# Altium schematic symbol library Connectors.SchLib: 308 symbols (part 3 of 4)
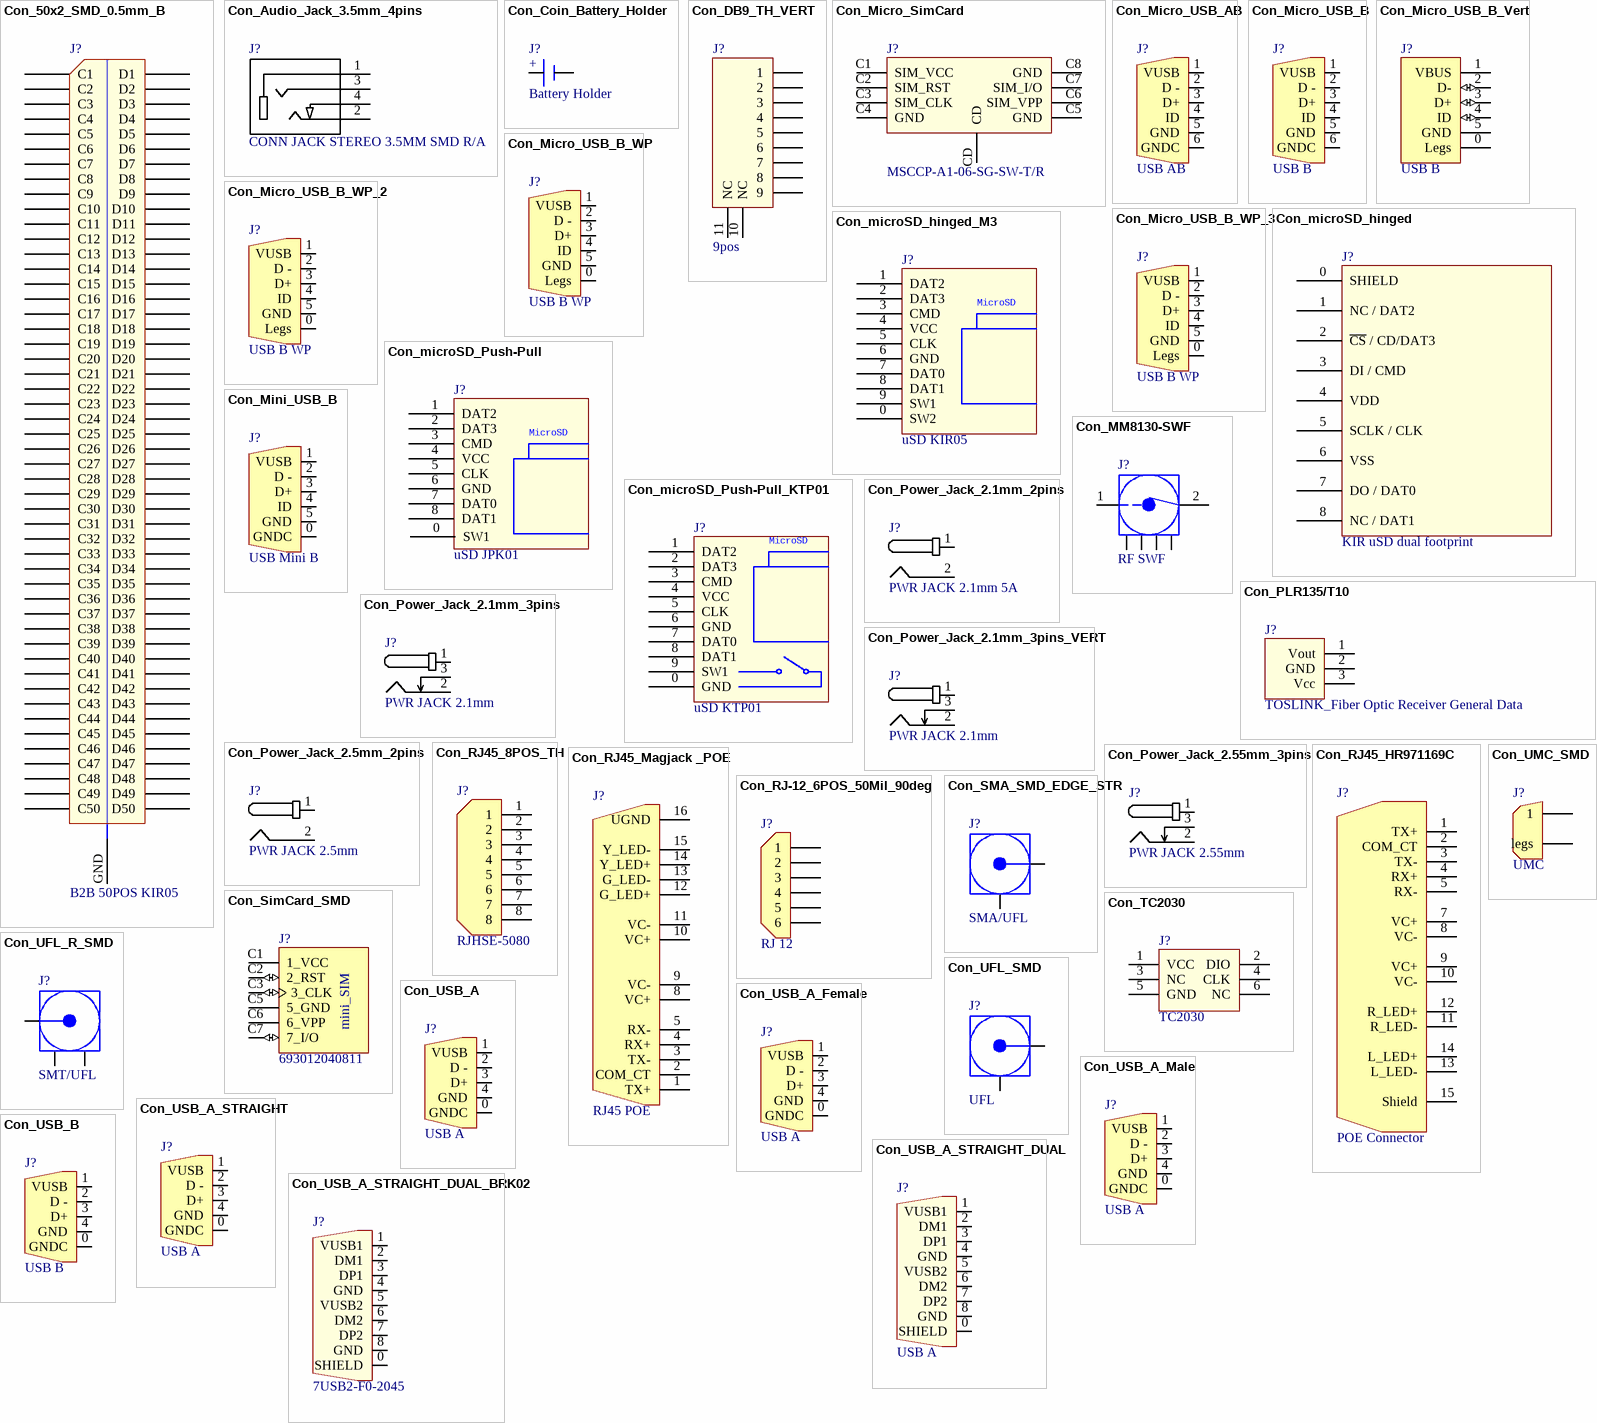
[diagram p11: symbols Con_50x2_SMD_0.5mm_B to Con_USB_B]

## Con_UFL_SMD
designator J?, comment UFL
CONN U.FL RCPT STR 50 OHM SMD; Manufacturer: Hirose Electric Co Ltd; Manufacturer Part Number: U.FL-R-SMT-1(40); Supplier 1: Digi-Key; Supplier Part Number 1: H125761CT-ND; Last modified by: J-E.Pachon; Last modified date: 20210722; ComponentLink1Description: Digi-Key; ComponentLink1URL: https://www.digikey.com/product-detail/en/hirose-electric-co-ltd/U.FL-R-SMT-1-40/H125761CT-ND/8594840
footprint CON_UFL_SMD (/ 20190503 / M-X.Arias)
pins: 0 GND (power), 1 Signal "Signal Pin"

## Con_UMC_SMD
designator J?, comment UMC
CONN UMC RCPT STR 50 OHM SMD; Manufacturer: Taoglas Limited; Manufacturer Part Number: RECE.20449.001E.01; Supplier 1: Digi-Key; Supplier Part Number 1: 931-1158-1-ND; Last modified by: E.Naranjo; Last modified date: 20211216; ComponentLink1Description: Digi-Key; ComponentLink1URL: https://www.digikey.com/en/products/detail/taoglas-limited/RECE-20449-001E-01/3083267?s=N4IgTCBcDaIEoFEDCCB0YAMAWLBOVGGAjGsSALoC%2BQA
footprint CON_UMC_SMD (20211216 / E.Naranjo)
pins: 0 legs, 1

## Con_USB_A
designator J?, comment USB A
CONN RCPT USB2.0 TYPEA 4P SMD RA; Manufacturer Part Number: 87583-3010RPALF; Manufacturer: Amphenol ICC (FCI); Last modified by: V-A.Patino; Last modified date: 20210722; ComponentLink1Description: Digi-Key; ComponentLink1URL: https://www.digikey.com/products/en/connectors-interconnects/usb-dvi-hdmi-connectors/312?k=87583-3010RPALF&k=&pkeyword=87583-3010RPALF&sv=0&pv7=2&sf=0&quantity=&ColumnSort=0&page=1&pageSize=25; Supplier 1: Digi-Key; Supplier Part Number 1: 609-4946-1-ND
footprint CON_4x1_SMD_USB_A (20190328 / V-A.Patino)
pins: 0 GNDC, 1 VUSB, 2 D -, 3 D+, 4 GND

## Con_USB_A_Female
designator J?, comment USB A
USB - Type A Female USB 2.0 4 Through Hole USB Connectors RoHS; Manufacturer Part Number: 903-131A1011D10100; Manufacturer: Jing Extension of the Electronic Co.; Last modified by: V-A.Patino; Last modified date: 20210722; ComponentLink1Description: LCSC; ComponentLink1URL: https://lcsc.com/product-detail/USB-Connectors_Jing-Extension-of-the-Electronic-Co-A-F90-White-plastic-Not-high-temperature_C46407.html; Supplier 1: LCSC; Supplier Part Number 1: C46407
footprint CON_USB_TYPE_A_FEMALE (/20210420/V-A.Patino)
pins: 0 GNDC, 1 VUSB, 2 D -, 3 D+, 4 GND

## Con_USB_A_Male
designator J?, comment USB A
USB - Type A Male USB 2.0 4 Through Hole USB Connectors RoHS; Manufacturer Part Number: 917-181A102ED60200; Manufacturer: Jing Extension of the Electronic Co.; Last modified by: V-A.Patino; Last modified date: 20210722; ComponentLink1Description: LCSC; ComponentLink1URL: https://lcsc.com/product-detail/USB-Connectors_Jing-Extension-of-the-Electronic-Co-A-M-90-VinylPBT-With-a-column-Not-high-temperature_C9739.html; Supplier 1: LCSC; Supplier Part Number 1: C9739
footprint CON_USB_TYPE_A_MALE (/20210420/V-A.Patino)
pins: 0 GNDC, 1 VUSB, 2 D -, 3 D+, 4 GND

## Con_USB_A_STRAIGHT
designator J?, comment USB A
USB TYPE-A SINGLE PORT STRAIGHT; Manufacturer: Cvilux USA; Manufacturer Part Number: CU01SAV1S00; Supplier 1: Digi-Key; Supplier Part Number 1: 2987-CU01SAV1S00-ND; Last modified by: M-C.Calderon; Last modified date: 20210722; ComponentLink1Description: Digi-Key; ComponentLink1URL: https://www.digikey.com/en/products/detail/cvilux-usa/CU01SAV1S00/13177553?s=N4IgTCBcDaIMIFUAMBGAygQQGrqUgBCALoC%2BQA
footprint CON_USB_A_4_VERTICAL (20210412/M-C.Calderon)
pins: 0 GNDC, 1 VUSB, 2 D -, 3 D+, 4 GND

## Con_USB_A_STRAIGHT_DUAL
designator J?, comment USB A
CONN RCPT USB2.0 TYPEA 4POS DUAL; Manufacturer: Shenzhen Kinghelm Elec; Manufacturer Part Number: KH-2AF180DIP-1715; Supplier 1: LCSC; Supplier Part Number 1: C2833361; Last modified by: N-A.Potosi; Last modified date: 20220621; ComponentLink1Description: LCSC; ComponentLink1URL: https://lcsc.com/product-detail/USB-Connectors_Shenzhen-Kinghelm-Elec-KH-2AF180DIP-1715_C2833361.html
footprint CON_USB_A_4_VERTICAL_DUAL (20220621/N-A.Potosi)
pins: 0 SHIELD, 1 VUSB1, 2 DM1, 3 DP1, 4 GND, 5 VUSB2, 6 DM2, 7 DP2, 8 GND

## Con_USB_A_STRAIGHT_DUAL_BRK02
designator J?, comment 7USB2-F0-2045
CONN RCPT USB2.0 TYPEA 4POS DUAL; Manufacturer: KINGCONN; Manufacturer Part Number: 7USB2-F0-2045; Supplier 1: PSI; Supplier Part Number 1: 7USB2-F0-2045; Last modified by: N-A.Potosi; Last modified date: 20221118
footprint CON_USB_A_4_VERTICAL_DUAL_BRK02 (20221118/N-A.Potosi)
pins: 0 SHIELD, 1 VUSB1, 2 DM1, 3 DP1, 4 GND, 5 VUSB2, 6 DM2, 7 DP2, 8 GND

## Con_USB_B
designator J?, comment USB B
USB - Type B Female USB 2.0 4 Through Hole USB Connectors RoHS; Manufacturer: Jing Extension of the Electronic Co.; Manufacturer Part Number: 921-111A1010Y10200; Supplier 1: LCSC; Supplier Part Number 1: C26234; Last modified by: N-A.Potosi; Last modified date: 20210722; ComponentLink1Description: LCSC; ComponentLink1URL: https://lcsc.com/product-detail/USB-Connectors_Jing-Extension-of-the-Electronic-Co-921-111A1010Y10200_C26234.html
footprint CON_USB_B_VERTICAL (/20230427/A-F. Romo)
pins: 0 GNDC, 1 VUSB, 2 D -, 3 D+, 4 GND

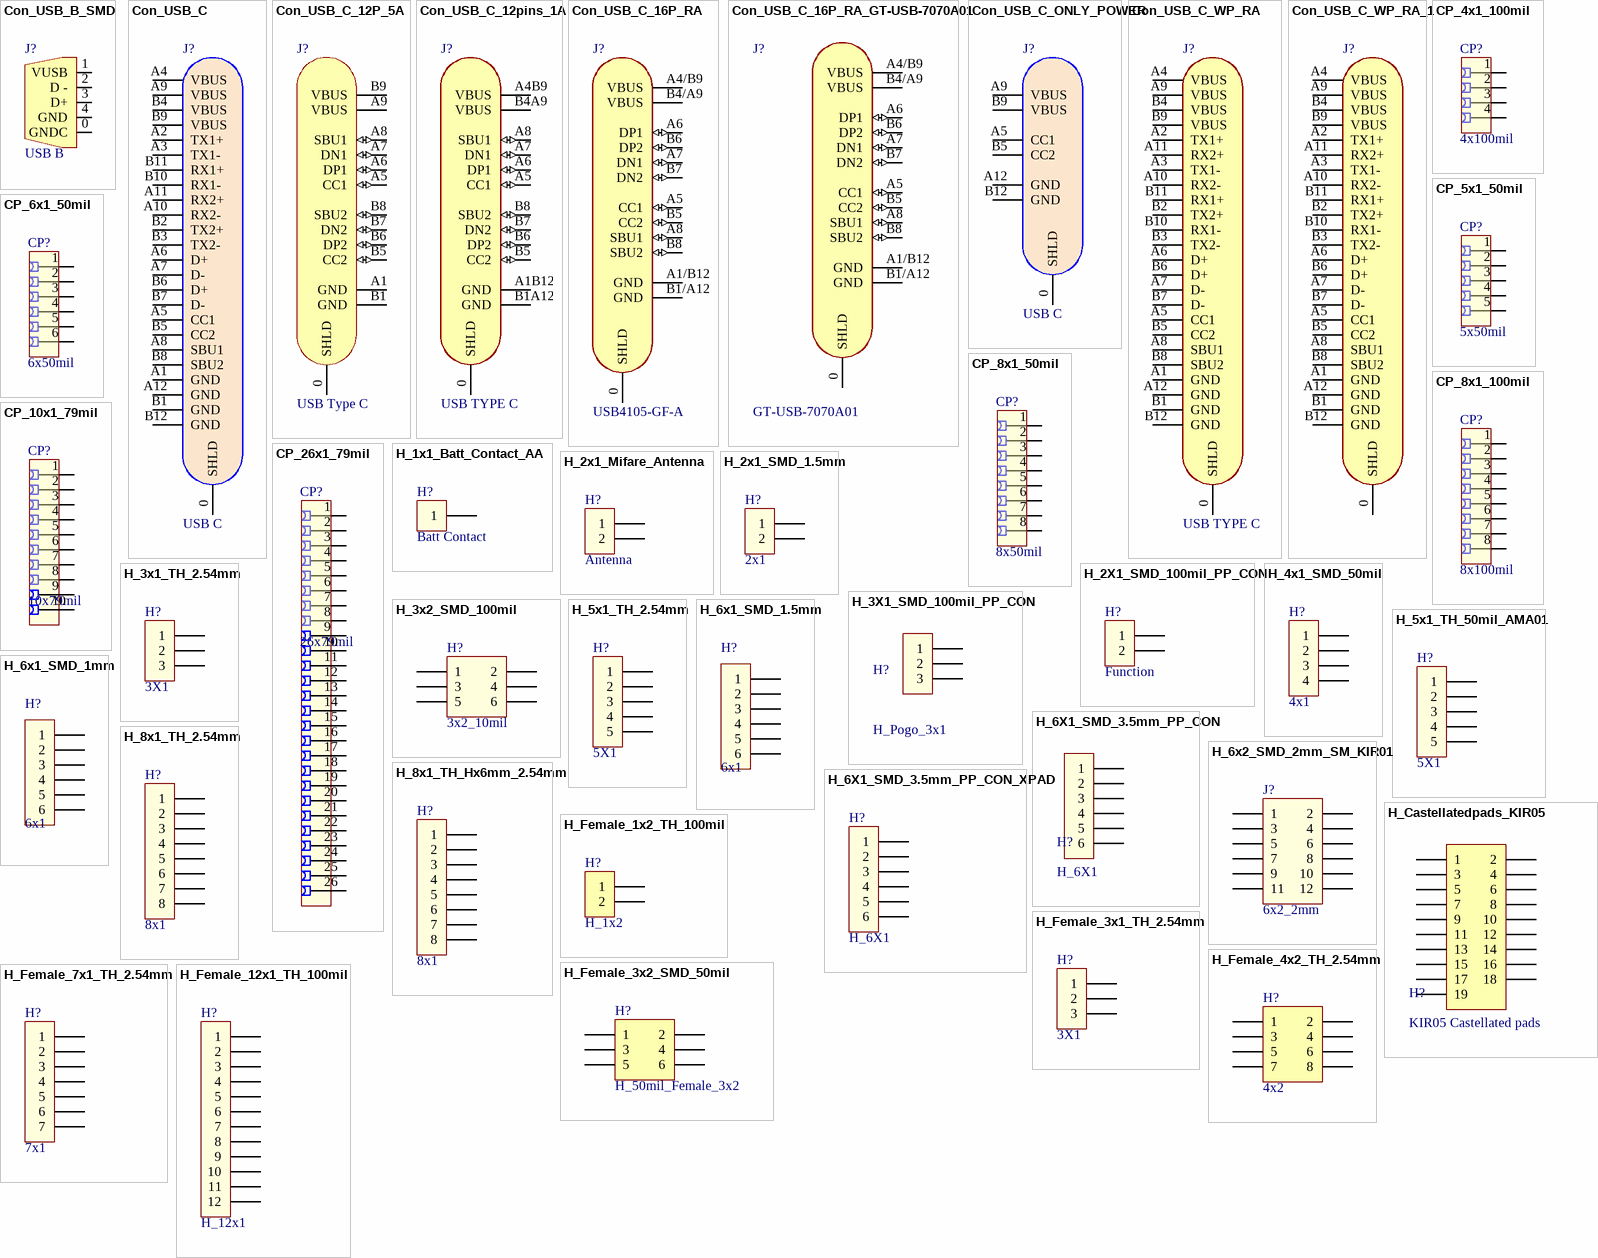
[diagram p6: symbols Con_USB_B_SMD to H_Female_12x1_TH_100mil]

## Con_USB_B_SMD
designator J?, comment USB B
Receptacle USB - Type B 4 USB 2.0 Through Hole USB Connectors ROHS; Manufacturer: Jing Extension of the Electronic  Co.; Manufacturer Part Number: 921-112A1010D10200; Supplier 1: LCSC; Supplier Part Number 1: C46393; Last modified by: N-A.Potosi; Last modified date: 20210831; ComponentLink1Description: LCSC; ComponentLink1URL: https://lcsc.com/product-detail/USB-Connectors_Jing-Extension-of-the-Electronic-Co-921-112A1010D10200_C46393.html
footprint CON_USB_B_SMD (/20210831/N-A.Potosi)
pins: 0 GNDC, 1 VUSB, 2 D -, 3 D+, 4 GND

## Con_USB_C
designator J?, comment USB C
USB TYPE C , RECEPTACLE, DIP, ED; Manufacturer: Adam Tech; Manufacturer Part Number: USB-C31-S-RA-EH2.0B-BK-T/R; Supplier 1: Digi-key; Supplier Part Number 1: 2057-USB-C31-S-RA-EH2.0B-BK-T/RCT-ND; Last modified by: V-A.Patino; Last modified date: 20210722; ComponentLink1Description: Digi-key; ComponentLink1URL: https://www.digikey.com/en/products/detail/adam-tech/USB-C31-S-RA-EH2-0B-BK-T-R/9832221
footprint CON_USB_C (/20210301/V-A.Patino)
pins: 0 SHLD, A1 GND, A2 TX1+, A3 TX1-, A4 VBUS, A5 CC1, A6 D+, A7 D-, A8 SBU1, A9 VBUS, A10 RX2-, A11 RX2+, A12 GND, B1 GND, B2 TX2+, B3 TX2-, B4 VBUS, B5 CC2, B6 D+, B7 D-, B8 SBU2, B9 VBUS, B10 RX1-, B11 RX1+, B12 GND

## Con_USB_C_12P_5A
designator J?, comment USB Type C
Manufacturer: Winpoint Electronic; Manufacturer Part Number: 3410-3CJRC9XKSX; Last modified by: E.Naranjo; Last modified date: 20220712
footprint CON_USB_C_12P_5A (20220712 / E.Naranjo)
pins: 0 SHLD, A1 GND (power), A5 CC1 (io), A6 DP1 (io), A7 DN1 (io), A8 SBU1 (io), A9 VBUS (power), B1 GND (power), B5 CC2 (io), B6 DP2 (io), B7 DN2 (io), B8 SBU2 (io), B9 VBUS (power)

## Con_USB_C_12pins_1A
designator J?, comment USB TYPE C
USB - Type C Female 12 Sink plate type USB Connectors RoHS; Manufacturer: Korean Hroparts Elec; Manufacturer Part Number: TYPE-C-31-M-14; Supplier 1: LCSC; Supplier Part Number 1: C223907; Last modified by: N-A.Potosi; Last modified date: 20210722; ComponentLink1Description: LCSC; ComponentLink1URL: https://lcsc.com/product-detail/USB-Type-C_Korean-Hroparts-Elec-TYPE-C-31-M-14_C223907.html
footprint CON_12X1_USB_TYPE_C_MIDMOUNTED (/20210706/N-A.Potosi)
pins: 0 SHLD, A1B12 GND (power), A4B9 VBUS (power), A5 CC1 (io), A6 DP1 (io), A7 DN1 (io), A8 SBU1 (io), B1A12 GND (power), B4A9 VBUS (power), B5 CC2 (io), B6 DP2 (io), B7 DN2 (io), B8 SBU2 (io)

## Con_USB_C_16P_RA
designator J?, comment USB4105-GF-A
USB Connectors USB Type C,2.0, Rec,SMT, 0.95mmTH Shell Stakes,G/F,RA,Top Mnt,T&R; Manufacturer: GCT; Manufacturer Part Number: USB4105-GF-A; Supplier 1: Mouser; Supplier Part Number 1: 640-USB4105-GF-A; Last modified by: E.Naranjo; Last modified date: 20220527; ComponentLink1Description: Mouser; ComponentLink1URL: https://co.mouser.com/ProductDetail/GCT/USB4105-GF-A?qs=KUoIvG%2F9IlY%2FMLlBMpStpA%3D%3D
footprint CON_USB_C_16P_RA (20220527 / E.Naranjo)
pins: 0 SHLD, A1/B12 GND (power), A4/B9 VBUS (power), A5 CC1 (io), A6 DP1 (io), A7 DN1 (io), A8 SBU1 (io), B1/A12 GND (power), B4/A9 VBUS (power), B5 CC2 (io), B6 DP2 (io), B7 DN2 (io), B8 SBU2 (io)

## Con_USB_C_16P_RA_GT-USB-7070A01
designator J?, comment GT-USB-7070A01
USB 2.0 5A 1 Surface Mount 16P Female -40℃~+85℃ Gold High Conductivity Copper Type-C SMD USB Connectors ROHS; Manufacturer: G-Switch; Manufacturer Part Number: GT-USB-7070A01; Supplier 1: LCSC; Supplier Part Number 1: C5446865; Last modified by: N-A.Potosi; Last modified date: 20230822; ComponentLink1Description: LCSC; ComponentLink1URL: https://www.lcsc.com/product-detail/USB-Connectors_G-Switch-GT-USB-7070A01_C5446865.html
footprint CON_USB_C_16P_RA - GT-USB-7070A01 (20230822 / N-A.Potosi)
pins: 0 SHLD, A1/B12 GND (power), A4/B9 VBUS (power), A5 CC1 (io), A6 DP1 (io), A7 DN1 (io), A8 SBU1 (io), B1/A12 GND (power), B4/A9 VBUS (power), B5 CC2 (io), B6 DP2 (io), B7 DN2 (io), B8 SBU2 (io)

## Con_USB_C_ONLY_POWER
designator J?, comment USB C
USB - Type C Female 6 USB Connectors RoHS; Manufacturer: Korean Hroparts Elec; Manufacturer Part Number: TYPE-C-31-M-17; Supplier 1: LCSC; Supplier Part Number 1: C283540; Last modified by: V-A.Patino; Last modified date: 20210722; ComponentLink1Description: LCSC; ComponentLink1URL: https://lcsc.com/product-detail/Others_Korean-Hroparts-Elec-TYPE-C-31-M-17_C283540.html
footprint CON_USB_C_POWER_ONLY (/20210318/V-A.Patino)
pins: 0 SHLD, A5 CC1, A9 VBUS, A12 GND, B5 CC2, B9 VBUS, B12 GND

## Con_USB_C_WP_RA
designator J?, comment USB TYPE C
USB TYPE C, RECEPTACLE, MIDDLE M; Manufacturer: Amphenol ICC (Commercial Products); Manufacturer Part Number: 124019032112A; Supplier 1: Digikey; Supplier Part Number 1: 124019032112ACT-ND; Last modified by: J-E.Pachon; Last modified date: 20210722; ComponentLink1Description: Digikey; ComponentLink1URL: https://www.digikey.com/en/products/detail/amphenol-icc-commercial-products/124019032112A/9825359?s=N4IgTCBcDaIIxgCwAY4E5kGYxwQQQGEAVAWgDkAREAXQF8g
footprint CON_12X2_USB_TYPE_C (/20210106/J-E.Pachon)
pins: 0 SHLD, A1 GND, A2 TX1+, A3 TX1-, A4 VBUS, A5 CC1, A6 D+, A7 D-, A8 SBU1, A9 VBUS, A10 RX2-, A11 RX2+, A12 GND, B1 GND, B2 TX2+, B3 TX2-, B4 VBUS, B5 CC2, B6 D+, B7 D-, B8 SBU2, B9 VBUS, B10 RX1-, B11 RX1+, B12 GND

## Con_USB_C_WP_RA_1
designator J?
SMD USB Connectors ROHS; Manufacturer: Korean Hroparts Elec; Manufacturer Part Number: TYPE_C_31_E_12; Supplier 1: LCSC; Supplier Part Number 1: C2837227; Last modified by: J-E.Pachon; Last modified date: 20210826; ComponentLink1Description: LCSC; ComponentLink1URL: https://lcsc.com/product-detail/USB-Connectors_Korean-Hroparts-Elec-TYPE-C-31-E-12_C2837227.html
footprint CON_USB_C_WP_RA (/20210826/J-E.Pachon)
pins: 0 SHLD, A1 GND, A2 TX1+, A3 TX1-, A4 VBUS, A5 CC1, A6 D+, A7 D-, A8 SBU1, A9 VBUS, A10 RX2-, A11 RX2+, A12 GND, B1 GND, B2 TX2+, B3 TX2-, B4 VBUS, B5 CC2, B6 D+, B7 D-, B8 SBU2, B9 VBUS, B10 RX1-, B11 RX1+, B12 GND

## CP_4x1_100mil
designator CP?, comment 4x100mil  (no BOM)
CONN CASTELLATED PADS 4x1 100mils; Manufacturer: NA; Manufacturer Part Number: NA; Supplier 1: NA; Supplier Part Number 1: NA; Titoma stock: NA; Last modified by: C-A.Serna.A; Last modified date: 20191126
footprint CP_4x1_100mil_TP (/ 20191126/ C-A.Serna.A)
pins: 1, 2, 3, 4

## CP_5x1_50mil
designator CP?, comment 5x50mil  (no BOM)
CONN CASTELLATED PADS 5x1 50mils; Manufacturer: NA; Manufacturer Part Number: NA; Supplier 1: NA; Supplier Part Number 1: NA; Titoma stock: NA; Last modified by: N-A.Potosi; Last modified date: 20220331
footprint CP_5x1_50mil (/ 20220331 N-A.Potosi)
pins: 1, 2, 3, 4, 5

## CP_6x1_50mil
designator CP?, comment 6x50mil  (no BOM)
CONN CASTELLATED PADS 6x1 50mils; Manufacturer: NA; Manufacturer Part Number: NA; Supplier 1: NA; Supplier Part Number 1: NA; Titoma stock: NA; Last modified by: N-A.Potosi; Last modified date: 20220331
footprint CP_6x1_50mil (/ 20220331 N-A.Potosi)
pins: 1, 2, 3, 4, 5, 6

## CP_8x1_50mil
designator CP?, comment 8x50mil  (no BOM)
CONN CASTELLATED PADS 8x1 50mils; Last modified by: C-A.Serna.A; Last modified date: 20191126
footprint CP_8x1_50mil (/ 20200103 C-A.Serna.A)
pins: 1, 2, 3, 4, 5, 6, 7, 8

## CP_8x1_100mil
designator CP?, comment 8x100mil  (no BOM)
CONN CASTELLATED PADS 8x1 100mils; Last modified by: C-A.Serna.A; Last modified date: 20191126
footprint CP_8x1_100mil_TP (/ 20191126/ C-A.Serna.A)
pins: 1, 2, 3, 4, 5, 6, 7, 8

## CP_10x1_79mil
designator CP?, comment 10x79mil  (no BOM)
CONN CASTELLATED PADS 10x1 79mils; Last modified by: J-A.Sepulveda; Last modified date: 20230808
footprint CP_10x1_79mil (/20230808/J-A.Sepulveda)
pins: 1, 2, 3, 4, 5, 6, 7, 8, 9, 10

## CP_26x1_79mil
designator CP?, comment 26x79mil  (no BOM)
CONN CASTELLATED PADS 26x1 79mils; Last modified by: J-A.Sepulveda; Last modified date: 20230808
footprint CP_26x1_79mil (/20230808/J-A.Sepulveda)
pins: 1, 2, 3, 4, 5, 6, 7, 8, 9, 10, 11, 12, 13, 14, 15, 16, 17, 18, 19, 20, 21, 22, 23, 24, 25, 26

## H_1x1_Batt_Contact_AA
designator H?, comment Batt Contact  (no BOM)
BATT CONTACT SPRING MULTI PC PIN; Manufacturer: Keystone Electronics; Manufacturer Part Number: 1021-1; Supplier 1: Digi-Key; Supplier Part Number 1: 36-1021-1-ND; Last modified by: N-A.Potosi; Last modified date: 20210722; ComponentLink1Description: Digi-Key; ComponentLink1URL: https://www.digikey.com/en/products/detail/keystone-electronics/1021-1/4499387?s=N4IgTCBcDaIMwDYC0BGADGFqkDkAiIAugL5A
footprint H_1x1_TH_1.1mm (/ 20210323/ N-A.Potosi)
pins: 1

## H_2x1_Mifare_Antenna
designator H?, comment Antenna  (no BOM)
Mifare Antenna Connector; Last modified by: C-A.Serna.A; Last modified date: 20190225
footprint H_2x1_Mifare_Antenna (/ 20190920 / M-X.Arias)
pins: 1, 2

## H_2x1_SMD_1.5mm
designator H?, comment 2x1  (no BOM)
Header 2 POS 1.5MM; Last modified by: J-E.Pachon; Last modified date: 20210114
footprint H_2X1_SMD_1.5MM (/20210114/J-E.Pachon)
pins: 1, 2

## H_2X1_SMD_100mil_PP_CON
designator H?, comment Function  (no BOM)
POGO PIN HEADER 2P 100MIL PITCH; Manufacturer: Mill-Max Manufacturing Corp.; Manufacturer Part Number: 811-22-002-30-000101; Last modified by: C-A.Serna.A; Last modified date: 20190225; Supplier 1: Digi-key; Supplier Part Number 1: ED8110-02-ND; ComponentLink1Description: Digi-Key; ComponentLink1URL: https://www.digikey.com/en/products/detail/mill-max-manufacturing-corp/811-22-002-30-000101/682270?s=N4IgTCBcDaIKIBEAcBGFAGAtOsmByCIAugL5A
footprint H_2X1_SMD_100mil_PP_CON (/ 20190222 / C-A.Serna.A)
pins: 1, 2

## H_3X1_SMD_100mil_PP_CON
designator H?, comment H_Pogo_3x1  (no BOM)
POGO PIN HEADER 3P 100MIL PITCH; Last modified by: C-A.Serna.A; Last modified date: 20190225
footprint H_3X1_SMD_100mil_PP_CON (/ 20190222 / C-A.Serna.A)
pins: 1, 2, 3

## H_3x1_TH_2.54mm
designator H?, comment 3X1
CONN HEADER R/A 3POS 2.54MM; Manufacturer: Molex; Manufacturer Part Number: 0022289033; Supplier 1: Digikey; Supplier Part Number 1: WM22775-ND; Last modified by: J-E.Pachon; Last modified date: 20210722; ComponentLink1Description: Digikey; ComponentLink1URL: https://www.digikey.com/en/products/detail/molex/0022289033/3158811
footprint H_3X1_TH_2.54MM (/20210218/J-E.Pachon)
pins: 1, 2, 3

## H_3x2_SMD_100mil
designator H?, comment 3x2_10mil
CONN HEADER SMD 6POS 2.54MM; Manufacturer Part Number: 0015910060; Manufacturer: Molex; ComponentLink1URL: https://www.digikey.com/product-detail/en/molex/0015910060/WM17457-ND/614773; Last modified date: 20210722; Last modified by: C-D Viveros; Supplier 1: Digi-key; Supplier Part Number 1: WM17457-ND; ComponentLink1Description: Digi-key; ComponentLink1URL: https://www.digikey.tw/products/en?keywords=3M6475-ND
footprint H_3x2_SMD_100MIL (/ 20191030 / C-D.Viveros)
pins: 1, 2, 3, 4, 5, 6

## H_4x1_SMD_50mil
designator H?, comment 4x1  (no BOM)
HEADER 4 POS 50MIL; Last modified by: J-E.Pachon; Last modified date: 20210722
footprint H_4X1_SMD_50MIL (/20210701/J-E.Pachon)
pins: 1, 2, 3, 4

## H_5x1_TH_2.54mm
designator H?, comment 5X1
CONN HEADER R/A 5POS 2.54MM; Manufacturer: Molex; Manufacturer Part Number: 0022288053; Supplier 1: Digikey; Supplier Part Number 1: WM50026-05-ND; Last modified by: J-E.Pachon; Last modified date: 20210722; ComponentLink1Description: Digikey; ComponentLink1URL: https://www.digikey.com/en/products/detail/molex/0022288053/314210
footprint H_5X1_TH_2.54MM (/20210218/J-E.Pachon)
pins: 1, 2, 3, 4, 5

## H_5x1_TH_50mil_AMA01
designator H?, comment 5X1  (no BOM)
Header 5x1 1.27mm; Last modified by: E.Naranjo; Last modified date: 20220518
footprint H_5X1_TH_50MIL_AMA01 (20220517 / E.Naranjo)
pins: 1, 2, 3, 4, 5

## H_6x1_SMD_1.5mm
designator H?, comment 6x1  (no BOM)
Header 6 POS 1.5MM; Last modified by: J-E.Pachon; Last modified date: 20210113
footprint H_6x1_SMD_1.5MM (/20210113/J-E.Pachon)
pins: 1, 2, 3, 4, 5, 6

## H_6x1_SMD_1mm
designator H?, comment 6x1  (no BOM)
Header 6 POS 1MM; Last modified by: J-E.Pachon; Last modified date: 20210809
footprint H_6x1_SMD_1.0MM (/20210810/J-E.Pachon)
pins: 1, 2, 3, 4, 5, 6

## H_6X1_SMD_3.5mm_PP_CON
designator H?, comment H_6X1  (no BOM)
POGO PIN HEADER 6P 3.5MM PITCH; Last modified by: N-A.Potosi; Last modified date: 20210202
footprint H_6X1_SMD_3.5mm_PP_CON (/ 20190222 / C-A.Serna.A)
pins: 1, 2, 3, 4, 5, 6

## H_6X1_SMD_3.5mm_PP_CON_XPAD
designator H?, comment H_6X1
POGO PIN HEADER 6P 3.5MM PITCH; Manufacturer Part Number: PG2.0-8.0-6P-3.5PH-2.0H; Manufacturer: Dongguan Precision Metal Co., Ltd; Last modified by: N-A Potosi; Last modified date: 20211027; Supplier 1: Poshton; Supplier Part Number 1: PG2.0-8.0-6P-3.5PH-2.0H
footprint H_6X1_SMD_3.5mm_PP_CON_XPAD (/ 20190923/ N-A. Potosi)
pins: 1, 2, 3, 4, 5, 6

## H_6x2_SMD_2mm_SM_KIR01
designator J?, comment 6x2_2mm
2.00mm Pitch Milli-Grid Straddle Mount Header; Manufacturer Part Number: PH2.00*1.5-6P-4; Manufacturer: Realrun; Last modified date: 20210722; Last modified by: J-E.Pachon; Supplier 1: Poshton; Supplier Part Number 1: PH2.00*1.5-6P-4; ComponentLink1URL: https://www.digikey.tw/products/en?keywords=3M6475-ND
footprint H_6X2_SMD_100MIL_SM_KIR01 (/ C-A.Serna.A / 20190710)
pins: 1, 2, 3, 4, 5, 6, 7, 8, 9, 10, 11, 12

## H_8x1_TH_2.54mm
designator H?, comment 8x1
CONN HEADER R/A 8POS 2.54MM; Manufacturer: Molex; Manufacturer Part Number: 0022288083; Supplier 1: Digikey; Supplier Part Number 1: WM50026-08-ND; Last modified by: J-E.Pachon; Last modified date: 20221011; ComponentLink1Description: Digikey; ComponentLink1URL: https://www.digikey.com/en/products/detail/molex/0022288083/314213?s=N4IgjCBcoKxaBjKAzAhgGwM4FMA0IB7KAbXBAF18AHAFyhAGUaAnASwDsBzEAX3wCYAHPBBJIaLHkIkQAZhjz%2BsitTqRGLDtz4gAbMuiiUGHPiKRSESiFr0mbLr3y7dIsRNPSLZa7fX2tJz0ATjdjSTMZABYwMGD%2BK1U7TUcdQWFDdxMpc1IhMBiABhUbNQ0HbXxgiEzwz1y5BN0wYV8ygNSBGH4w8WzI70TS5IqgqMK4Wr6Ir1JZMAB2QsKetpHAnRgwHqmPHJlZBbB5ZTX-FMqQLYzEOv3vWWDC4KOSv3KN-BhdKN69gbm2wWUTgZw%2BnSuglCu36sxA4xgy1WSXOox0uhef1hDSG7w6lyeBlu03q0UWun4Cze7QuQTAhUEvxhMxx1PWEO2%2BixLJkuJpaPwYAxRKMJPugOC8VCYPxdIWT25pO8L34rhltJ0i2qivFckR8rVKPBly1O2J-zhL0EwLZqM%2B4Hlk3N2LJ-CUVPVAodwVczKVpF0CyOpyNss1wShOoBIGK5B0-EKsSjcPGLhctuNQQT22TOIm8ozYYEiZuootDWCUQThY1xYSubJC0EMGlodrIATbobgxrXs7IqyPIe6XkHrbfZWTOdQ8svftnadZZdgyekrnEIAtDVp-6O6cdBup0uZ3qMRQD4vB7v9-gN1S-brji2wDBcEpzzweEA
footprint H_8X1_TH_2.54MM (/20221011/J-E.Pachon)
pins: 1, 2, 3, 4, 5, 6, 7, 8

## H_8x1_TH_Hx6mm_2.54mm
designator H?, comment 8x1
3A Shrouded Square Pins 2.54mm 6mm 1 8 2.54mm 1x8P Push-Pull,P=2.54mm Pin Headers; Manufacturer: DEALON; Manufacturer Part Number: DZ254W-11-08-65; Supplier 1: LCSC; Supplier Part Number 1: C2935933; Last modified by: J-A.Sepulveda; Last modified date: 20221128; ComponentLink1Description: LCSC; ComponentLink1URL: https://www.lcsc.com/product-detail/Pin-Headers_DEALON-DZ254W-11-08-65_C2935933.html
footprint H_8x1_TH_Hx6mm_2.54mm (/20221128/J-A.Sepulveda)
pins: 1, 2, 3, 4, 5, 6, 7, 8

## H_Castellatedpads_KIR05
designator H?, comment KIR05 Castellated pads  (no BOM)
19 Pins KIR05 Wifi connector; Last modified by: M-C.Calderon; ComponentLink1Description: New link; ComponentLink1URL: *; Last modified date: 20200825
footprint H_19_Castellatedpads_KIR05 (/20200825/M-C.Calderon)
pins: 1, 2, 3, 4, 5, 6, 7, 8, 9, 10, 11, 12, 13, 14, 15, 16, 17, 18, 19

## H_Female_1x2_TH_100mil
designator H?, comment H_1x2  (no BOM)
CONN HDR 2POS 0.1 TIN PCB; Manufacturer: Sullins Connector Solutions; Manufacturer Part Number: PPTC021LFBN-RC; Supplier 1: Digi-Key; Supplier Part Number 1: S7000-ND; Last modified by: F-A.Ospina; Last modified date: 20220725; ComponentLink1Description: Digi-Key; ComponentLink1URL: https://www.digikey.com/en/products/detail/sullins-connector-solutions/PPTC021LFBN-RC/810142
footprint H_1x2_TH_100mil (/ 20220725/ F-A.Ospina)
pins: 1, 2

## H_Female_3x1_TH_2.54mm
designator H?, comment 3X1
CONN HDR 3POS 0.1 GOLD PCB; Manufacturer: Sullins Connector Solutions; Manufacturer Part Number: PPPC031LFBN-RC; Supplier 1: Digikey; Supplier Part Number 1: S7036-ND; Last modified by: N-A.Potosi; Last modified date: 20210831; ComponentLink1Description: Digikey; ComponentLink1URL: https://www.digikey.com/en/products/detail/sullins-connector-solutions/PPPC031LFBN-RC/810175?s=N4IgTCBcDaIMoHYAMBmAbAWgHIBEQF0BfIA
footprint H_Female_3X1_TH_2.54MM (/20210831/N-A.Potosi)
pins: 1, 2, 3

## H_Female_3x2_SMD_50mil
designator H?, comment H_50mil_Female_3x2
CONN RCPT 6POS 0.05 GOLD SMD; Manufacturer Part Number: CLP-103-02-F-D; Manufacturer: Samtec Inc.; Supplier 1: Digi-Key; Supplier Part Number 1: SAM1153-03-ND; ComponentLink1URL: https://www.digikey.com/en/products/detail/samtec-inc/CLP-103-02-F-D/1109832; Last modified date: 20210722; Last modified by: C-D Viveros; ComponentLink1Description: Digi-key; ComponentLink1URL: *
footprint H_3x2_SMD_50mil_Female (/ 20201015 / C-D Viveros)
pins: 1, 2, 3, 4, 5, 6

## H_Female_4x2_TH_2.54mm
designator H?, comment 4x2
CONN HDR 8POS 0.1 TIN PCB; Manufacturer: Sullins Connector Solutions; Manufacturer Part Number: PPTC042LFBN-RC; Supplier 1: Digikey; Supplier Part Number 1: S7072-ND; Last modified by: N-A.Potosi; Last modified date: 20230117; ComponentLink1Description: Digikey; ComponentLink1URL: https://www.digikey.com/en/products/detail/sullins-connector-solutions/PPTC042LFBN-RC/810211?s=N4IgTCBcDaIApwCoGEAMAWMAZAYgIQDkBaAJWRAF0BfIA
footprint H_Female_4X2_TH_2.54MM (/20210831/N-A.Potosi)
pins: 1, 2, 3, 4, 5, 6, 7, 8

## H_Female_7x1_TH_2.54mm
designator H?, comment 7x1
CONN HDR 7POS 0.1 TIN PCB; Manufacturer: Sullins Connector Solutions; Manufacturer Part Number: PPTC071LFBN-RC; Supplier 1: Digikey; Supplier Part Number 1: S7005-ND; Last modified by: J-E.Pachon; Last modified date: 20210722; ComponentLink1Description: Digikey; ComponentLink1URL: https://www.digikey.com/en/products/detail/sullins-connector-solutions/PPTC071LFBN-RC/810146
footprint H_7x1_TH_100mil (/ 20190829 / M-X.Arias)
pins: 1, 2, 3, 4, 5, 6, 7

## H_Female_12x1_TH_100mil
designator H?, comment H_12x1
CONN HDR 12POS 0.1 TIN PCB; Manufacturer: Sullins Connector Solutions; Manufacturer Part Number: PPTC121LFBN-RC; Supplier 1: Digi-Key; Supplier Part Number 1: S6100-ND; Last modified by: V-A.Patino; Last modified date: 20210906; ComponentLink1Description: Digi-Key; ComponentLink1URL: https://www.digikey.com/en/products/detail/sullins-connector-solutions/PPTC121LFBN-RC/807231
footprint H_12x1_TH_100mil_Female (/ 20210906/ V-A.Patino)
pins: 1, 2, 3, 4, 5, 6, 7, 8, 9, 10, 11, 12

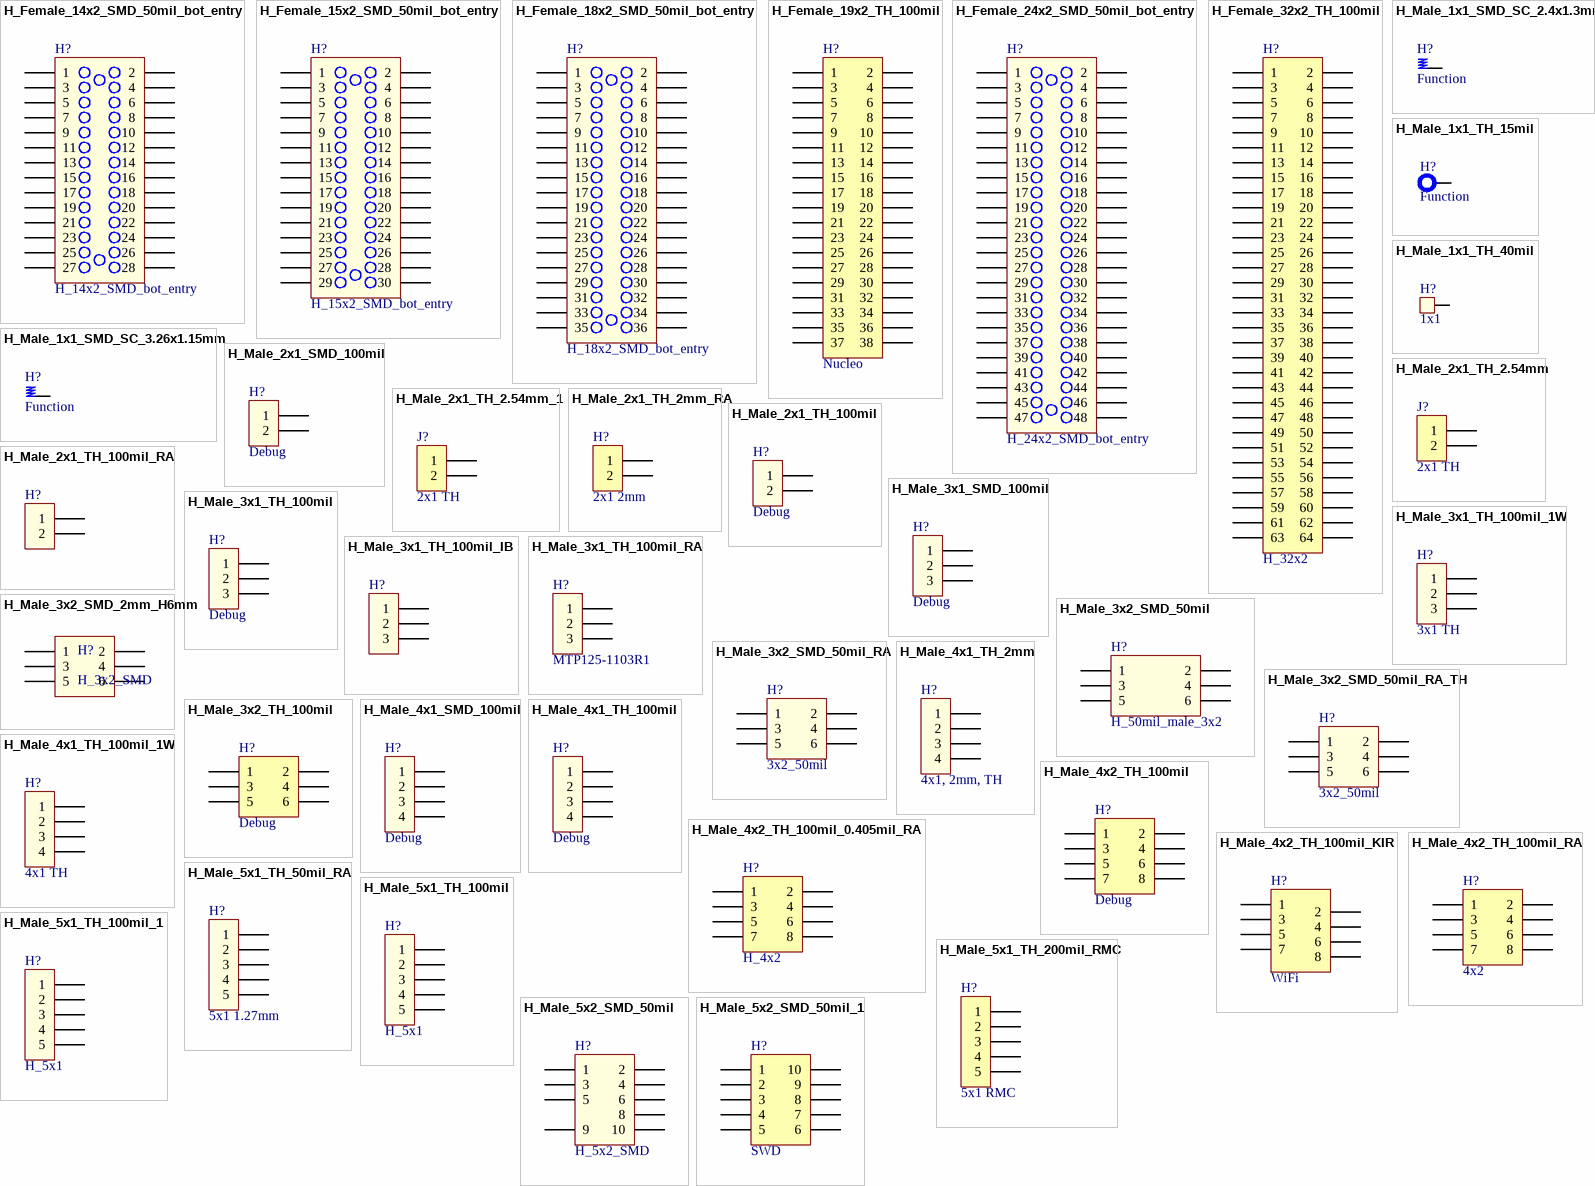
[diagram p7: symbols H_Female_14x2_SMD_50mil_bot_entry to H_Male_5x2_SMD_50mil_1]

## H_Female_14x2_SMD_50mil_bot_entry
designator H?, comment H_14x2_SMD_bot_entry
14x2 bottom entry; Manufacturer: REALRUN; Manufacturer Part Number: FH1.27×2.15-3.4-2x14T; Last modified by: N-A.Potosi; Last modified date: 20220120; Supplier 1: Poshton; Supplier Part Number 1: FH1.27×2.15-3.4-2x14T
footprint H_female_14x2_SMD_50mil_bottom_entry (/ 20220120/ N-A.potosi)
pins: 1, 2, 3, 4, 5, 6, 7, 8, 9, 10, 11, 12, 13, 14, 15, 16, 17, 18, 19, 20, 21, 22, 23, 24, 25, 26, 27, 28

## H_Female_15x2_SMD_50mil_bot_entry
designator H?, comment H_15x2_SMD_bot_entry
15x2 bottom entry; Manufacturer: REALRUN; Manufacturer Part Number: FH1.27×2.15-3.4-2x15T; Last modified by: N-A.Potosi; Last modified date: 20220909; Supplier 1: Poshton; Supplier Part Number 1: FH1.27×2.15-3.4-2x15T
footprint H_female_15x2_SMD_50mil_bottom_entry (/ 20220909/ N-A.potosi)
pins: 1, 2, 3, 4, 5, 6, 7, 8, 9, 10, 11, 12, 13, 14, 15, 16, 17, 18, 19, 20, 21, 22, 23, 24, 25, 26, 27, 28, 29, 30

## H_Female_18x2_SMD_50mil_bot_entry
designator H?, comment H_18x2_SMD_bot_entry
18x2 bottom entry; Manufacturer: REALRUN; Manufacturer Part Number: FH1.27×2.15-3.4-2x18T; Last modified by: N-A.Potosi; Last modified date: 20220121; Supplier 1: Poshton; Supplier Part Number 1: FH1.27×2.15-3.4-2x18T
footprint H_female_18x2_SMD_50mil_bottom_entry (/ 20220121/ N-A.potosi)
pins: 1, 2, 3, 4, 5, 6, 7, 8, 9, 10, 11, 12, 13, 14, 15, 16, 17, 18, 19, 20, 21, 22, 23, 24, 25, 26, 27, 28, 29, 30, 31, 32, 33, 34, 35, 36

## H_Female_19x2_TH_100mil
designator H?, comment Nucleo
CONN HDR 38POS 0.1 GOLD PCB; Manufacturer: Sullins Connector Solutions; Manufacturer Part Number: PPPC192LFBN-RC; Supplier 1: Digi-Key; Supplier Part Number 1: S7122-ND; Last modified by: J-E.Pachon; Last modified date: 20210722; ComponentLink1Description: Digi-Key; ComponentLink1URL: https://www.digikey.com/en/products/detail/sullins-connector-solutions/PPPC192LFBN-RC/810258?s=N4IgTCBcDaIMoHYCMYwFoByAREBdAvkA
footprint H_19x2_TH_100MIL (/ 20190401 / L-A Boulanger)
pins: 1, 2, 3, 4, 5, 6, 7, 8, 9, 10, 11, 12, 13, 14, 15, 16, 17, 18, 19, 20, 21, 22, 23, 24, 25, 26, 27, 28, 29, 30, 31, 32, 33, 34, 35, 36, 37, 38

## H_Female_24x2_SMD_50mil_bot_entry
designator H?, comment H_24x2_SMD_bot_entry
24x2 bottom entry; Manufacturer: REALRUN; Manufacturer Part Number: FH1.27×2.15-3.4-2x24T; Last modified by: N-A.Potosi; Last modified date: 20220121; Supplier 1: Poshton; Supplier Part Number 1: FH1.27×2.15-3.4-2x24T
footprint H_female_24x2_SMD_50mil_bottom_entry (/ 20220121/ N-A.potosi)
pins: 1, 2, 3, 4, 5, 6, 7, 8, 9, 10, 11, 12, 13, 14, 15, 16, 17, 18, 19, 20, 21, 22, 23, 24, 25, 26, 27, 28, 29, 30, 31, 32, 33, 34, 35, 36, 37, 38, 39, 40, 41, 42, 43, 44, 45, 46, 47, 48

## H_Female_32x2_TH_100mil
designator H?, comment H_32x2  (no BOM)
CONN HDR 64POS 0.1 TIN PCB; Manufacturer: Sullins Connector Solutions; Manufacturer Part Number: PPTC322LFBN-RC; Supplier 1: Digi-Key; Supplier Part Number 1: S7100-ND; Last modified by: J-P.Vargas.A; Last modified date: 20210722; ComponentLink1Description: Digi-Key; ComponentLink1URL: https://www.digikey.com/product-detail/en/sullins-connector-solutions/PPTC322LFBN-RC/S7100-ND/810237
footprint H_32x2_TH_100mil (/ 20200525/ J-P.Vargas.A)
pins: 1, 2, 3, 4, 5, 6, 7, 8, 9, 10, 11, 12, 13, 14, 15, 16, 17, 18, 19, 20, 21, 22, 23, 24, 25, 26, 27, 28, 29, 30, 31, 32, 33, 34, 35, 36, 37, 38, 39, 40, 41, 42, 43, 44, 45, 46, 47, 48, 49, 50, 51, 52, 53, 54, 55, 56, 57, 58, 59, 60, 61, 62, 63, 64

## H_Male_1x1_SMD_SC_2.4x1.3mm
designator H?, comment Function
CLIP SPRING ASSY 2.20MM; Manufacturer: Molex; Manufacturer Part Number: 1054390005; Supplier 1: Digi-Key; Supplier Part Number 1: WM12438CT-ND; Last modified by: J-E.Pachon; Last modified date: 20210722; ComponentLink1Description: Digi-Key; ComponentLink1URL: https://www.digikey.com/product-detail/en/molex/1054390005/WM12438TR-ND/5804337
footprint H_1x1_SMD_SC_2.4x1.32mm (/ 20190522 / H-D.Garcia)
pins: 1

## H_Male_1x1_SMD_SC_3.26x1.15mm
designator H?, comment Function
SHIELD FINGER, LOOSE PIECE; Manufacturer: TE Connectivity AMP Connectors; Manufacturer Part Number: 1551576-5; Supplier 1: Digi-Key; Supplier Part Number 1: A117267CT-ND; Last modified by: N-A.Potosi; Last modified date: 20211111; ComponentLink1Description: Digi-Key; ComponentLink1URL: https://www.digikey.tw/en/products/detail/te-connectivity-amp-connectors/1551576-5/5800491?s=N4IgTCBcDaIIIEYEHYwDZkGEAqBaAcgCIgC6AvkA
footprint H_1x1_SMD_SC_3.26x1.15mm (/ 20211111/ N-A.Potosi)
pins: 1

## H_Male_1x1_TH_15mil
designator H?, comment Function  (no BOM)
Debugging male pin; Last modified by: C-A.Serna.A; Last modified date: 20190225
footprint H_1x1_TH_15mil (/ 20190222 / C-A.Serna.A)
pins: 1

## H_Male_1x1_TH_40mil
designator H?, comment 1x1
CONN HEADER VERT 1POS; Manufacturer: Sullins Connector Solutions; Manufacturer Part Number: PREC001SAAN-RC; Supplier 1: Digi-Key; Supplier Part Number 1: S1012EC-01-ND; Last modified by: E.Naranjo; Last modified date: 20221108; ComponentLink1Description: Digi-Key; ComponentLink1URL: https://www.digikey.com/en/products/detail/sullins-connector-solutions/PREC001SAAN-RC/2774853
footprint H_MALE_1X1_TH_40MIL (20221108 / E.Naranjo)
pins: 1

## H_Male_2x1_SMD_100mil
designator H?, comment Debug  (no BOM)
Debugging male pin SMT; Manufacturer: Molex; Manufacturer Part Number: 0878980204; Supplier 1: Digi-Key; Supplier Part Number 1: WM9852-ND; Last modified by: J-A.Sepulveda; Last modified date: 20221215; ComponentLink1Description: Digi-Key; ComponentLink1URL: https://www.digikey.com/en/products/detail/molex/0878980204/3303535
footprint H_2X1_SMD_100mil (/ 20221215 / J-A.Sepulveda)
pins: 1, 2

## H_Male_2x1_TH_2.54mm
designator J?, comment 2x1 TH
CONN HEADER VERT 2POS 2.54MM; Manufacturer: Molex; Manufacturer Part Number: 0022232021; Supplier 1: Digi-Key; Supplier Part Number 1: 900-0022232021-ND; Last modified by: M-C.Calderon; Last modified date: 20210722; ComponentLink1Description: Digi-Key; ComponentLink1URL: https://www.digikey.com/products/en?keywords=WM4200-ND
footprint H_2x1_TH_2.54mm (/ 20200520 / J-E.Pachon)
pins: 1, 2

## H_Male_2x1_TH_2.54mm_1
designator J?, comment 2x1 TH
CONN HEADER VERT 2POS 2.54MM; Manufacturer: Molex; Manufacturer Part Number: 0022272021; Supplier 1: Digi-Key; Supplier Part Number 1: WM4111-ND; Last modified by: J-E.Pachon; Last modified date: 20220804; ComponentLink1Description: Digi-Key; ComponentLink1URL: https://www.digikey.com/en/products/detail/molex/0022272021/1130577?s=N4IgTCBcDaIGwBYCMAGABGMBaMB2HKYSIAugL5A
footprint H_2x1_TH_2.54mm_1 (/ 20220804 / J-E.Pachon)
pins: 1, 2

## H_Male_2x1_TH_2mm_RA
designator H?, comment 2x1 2mm
CONN HEADER R/A 2POS 2MM; Manufacturer: Sullins Connector Solutions; Manufacturer Part Number: SWR201-NRTN-S02-RL-WH; Supplier 1: Digi-Key; Supplier Part Number 1: S9443-ND; Last modified by: E.Naranjo; Last modified date: 20220516; ComponentLink1Description: Digi-Key; ComponentLink1URL: https://www.digikey.com/en/products/detail/sullins-connector-solutions/SWR201-NRTN-S02-RL-WH/2769609?s=N4IgTCBcDaIMoHUBKYAMBGAtAOSQFW0zlTEyQBlMEAJEAXQF8g
footprint H_MALE_2x1_TH_2MM_RA (20220516 / E.Naranjo)
pins: 1, 2

## H_Male_2x1_TH_100mil
designator H?, comment Debug  (no BOM)
Debugging male pin; Last modified by: C-A.Serna.A; Last modified date: 20190225
footprint H_2x1_TH_100mil (/ 20190222 / C-A.Serna.A)
pins: 1, 2

## H_Male_2x1_TH_100mil_RA
designator H?  (value not drawn)  (no BOM)
CONN HEADER R/A 2POS 2.54MM; Manufacturer: Sullins Connector Solutions; Manufacturer Part Number: PRPC002SBAN-M71RC; Supplier 1: Digi-Key; Supplier Part Number 1: S1111EC-02-ND; Last modified by: V-A.Patino; Last modified date: 20210722; ComponentLink1Description: Digi-key; ComponentLink1URL: https://www.digikey.com/product-detail/en/sullins-connector-solutions/PRPC002SBAN-M71RC/S1111EC-02-ND/2775332
footprint H_2x1_TH_100mil_RA (/ 20190515/ V-A.Patino)
pins: 1, 2

## H_Male_3x1_SMD_100mil
designator H?, comment Debug  (no BOM)
Debugging male pin SMT; Last modified by: C-A.Serna.A; Last modified date: 20190225
footprint H_3x1_SMD_100mil (/ 20190222 / C-A.Serna.A)
pins: 1, 2, 3

## H_Male_3x1_TH_100mil
designator H?, comment Debug  (no BOM)
Debugging male pin; Last modified by: C-A.Serna.A; Last modified date: 20190225
footprint H_3X1_TH_100mil (/ 20221228 / J-A.Sepulveda)
pins: 1, 2, 3

## H_Male_3x1_TH_100mil_1W
designator H?, comment 3x1 TH
CONN HEADER VERT 3POS 2.54MM; Manufacturer: Molex; Manufacturer Part Number: 0022232031; Supplier 1: Digi-Key; Supplier Part Number 1: WM4201-ND; Last modified by: M-C.Calderon; Last modified date: 20210722; ComponentLink1Description: Digi-Key; ComponentLink1URL: https://www.digikey.com/product-detail/en/molex/0022232031/WM4201-ND/26669
footprint H_3X1_TH_100mil_1W (/20200319/C-A.Serna.A)
pins: 1, 2, 3

## H_Male_3x1_TH_100mil_IB
designator H?, comment 3x1  (value not drawn)
CONN HEADER VERT 3POS 2.54MM; Manufacturer: Weizan; Manufacturer Part Number: PH2.54*2.54*2.54-1*3P-G2-P1-M2 A=3 B=6.1; Supplier 1: Poshton; Supplier Part Number 1: PH2.54*2.54*2.54-1*3P-G2-P1-M2 A=3 B=6.1; Last modified by: J-E.Pachon; Last modified date: 20210722; ComponentLink1Description: Digi-Key; ComponentLink1URL: https://www.digikey.com/en/products/detail/molex/0022232031/26669?s=N4IgTCBcDaIOoFkAsYAMBGAtAOQCIgF0BfIA
footprint H_3X1_TH_100mil (/ 20190221 / C-A.Serna.A)
pins: 1, 2, 3

## H_Male_3x1_TH_100mil_RA
designator H?, comment MTP125-1103R1
HEADER 3 POS 100MIL; Manufacturer: MINTRON; Manufacturer Part Number: MTP125-1103R1; Supplier 1: LCSC; Supplier Part Number 1: C376121; Last modified by: N-A.Potosi; Last modified date: 20230117; ComponentLink1Description: LCSC; ComponentLink1URL: https://lcsc.com/product-detail/Pin-Header-Female-Header_MINTRON-MTB125-1103R1_C376121.html
footprint H_3X1_TH_2.54MM_RA (/20210826/N-A.Potosi)
pins: 1, 2, 3

## H_Male_3x2_SMD_2mm_H6mm
designator H?, comment H_3x2_SMD
CONN HEADER SMD 6POS 2MM; Manufacturer: RealRun Electronics; Manufacturer Part Number: PH2.0*1.5-2*3T B3.9 W6.5 E2.1 6T 1U (WITH POST); Supplier 1: Poshton; Supplier Part Number 1: PH2.0*1.5-2*3T B3.9 W6.5 E2.1 6T 1U (WITH POST); Last modified by: J-A. Sepulveda; Last modified date: 20230628; ComponentLink1Description: Datasheet; ComponentLink1URL: https://drive.google.com/file/d/19RIDIU_OKHMi1S65odJu9Xc5tYHY4QGT/view?usp=drive_link
footprint H_Male_3x2_SMD_2mm_H6mm (/20230621/J-A.Sepulveda)
pins: 1, 2, 3, 4, 5, 6

## H_Male_3x2_SMD_50mil
designator H?, comment H_50mil_male_3x2
Header 2x3 50mil for Mifare; Manufacturer Part Number: GRPB032VWQS-RC; Manufacturer: Sullins Connector Solutions; Supplier 1: Digi-Key; Supplier Part Number 1: S9012E-03-ND; ComponentLink1URL: https://www.digikey.com/en/products/detail/sullins-connector-solutions/GRPB032VWQS-RC/1786412?s=N4IgTCBcDaIOICUAKAhADAZjANQOoEUBlAWgQGEQBdAXyA; Last modified date: 20210722; Last modified by: J-E.Pachon; ComponentLink1Description: Digi-Key; ComponentLink1URL: *
footprint H_3x2_SMD_50mil_MIFARE (/ 20190222 / C-A.Serna.A)
pins: 1, 2, 3, 4, 5, 6

## H_Male_3x2_SMD_50mil_RA
designator H?, comment 3x2_50mil
CONN HEADER SMD R/A 6POS 1.27MM; Manufacturer Part Number: PH1.27X2.5-2X3PBW B=3.8MM; Manufacturer: Realrun; Last modified date: 20200406; Last modified by: C-A.Serna.A; Supplier 1: Poshton; Supplier Part Number 1: PH1.27X2.5-2X3PBW B=3.8MM; ComponentLink1URL: https://www.digikey.tw/products/en?keywords=3M6475-ND
footprint H_3x2_SMD_50mil (/ 202000406/ C-A.Serna.A)
pins: 1, 2, 3, 4, 5, 6

## H_Male_3x2_SMD_50mil_RA_TH
designator H?, comment 3x2_50mil
CONN HEADER TH R/A 6POS 1.27MM; Manufacturer Part Number: PH1.27x2.5-2x3WG2P1M2 B=4mm; Manufacturer: Realrun; Last modified date: 20200416; Last modified by: C-A.Serna.A; Supplier 1: Poshton; Supplier Part Number 1: PH1.27x2.5-2x3WG2P1M2 B=4mm; ComponentLink1URL: https://www.digikey.tw/products/en?keywords=3M6475-ND
footprint H_3x2_TH_50mil_R/A (/ 20200416/ C-A.Serna.A)
pins: 1, 2, 3, 4, 5, 6

## H_Male_3x2_TH_100mil
designator H?, comment Debug  (no BOM)
Debugging male pin; Last modified by: M-C.Calderon; Last modified date: 20210215
footprint H_3x2_TH_100mil (/ 20190222 / C-A.Serna.A)
pins: 1, 2, 3, 4, 5, 6

## H_Male_4x1_SMD_100mil
designator H?, comment Debug  (no BOM)
Debugging male pin SMT; Last modified by: C-A.Serna.A; Last modified date: 20190225
footprint H_4x1_SMD_100mil (/ 20190221 / C-A.Serna.A)
pins: 1, 2, 3, 4

## H_Male_4x1_TH_2mm
designator H?, comment 4x1, 2mm, TH
CONN HEADER VERT 4POS 2MM; Manufacturer: M22-2010405; Manufacturer Part Number: Harwin Inc.; Supplier 1: Digi-Key; Supplier Part Number 1: 952-2275-ND; Last modified by: M-C.Calderon; Last modified date: 20210722; ComponentLink1Description: Digi-Key; ComponentLink1URL: https://www.digikey.com/en/products/detail/harwin-inc/M22-2010405/3728239
footprint H_4x1_TH_2mm (/20210714/M-C.Calderon)
pins: 1, 2, 3, 4

## H_Male_4x1_TH_100mil
designator H?, comment Debug  (no BOM)
Debugging male pin; Last modified by: C-A.Serna.A; Last modified date: 20190225
footprint H_4x1_TH_100mil (/ 20190222 / C-A.Serna.A)
pins: 1, 2, 3, 4

## H_Male_4x1_TH_100mil_1W
designator H?, comment 4x1 TH
CONN HEADER VERT 4POS 2.54MM; Manufacturer: Molex; Manufacturer Part Number: 0022232041; Supplier 1: Digi-Key; Supplier Part Number 1: WM4202-ND; Last modified by: M-C.Calderon; Last modified date: 20210722; ComponentLink1Description: Digi-Key; ComponentLink1URL: https://www.digikey.com/product-detail/en/molex/0022232041/WM4202-ND/26671
footprint H_4X1_TH_100mil_1W (/20200319/C-A.Serna.A)
pins: 1, 2, 3, 4

## H_Male_4x2_TH_100mil
designator H?, comment Debug  (no BOM)
Header Debuggind Male Pin; Last modified by: M-C.Calderon; Last modified date: 20210811
footprint H_4x2_TH_100MIL (/ 20210215 / M-C.Calderon)
footprint H_4x2_TH_100mil_BRK (/20210423/M-C.Calderon)
pins: 1, 2, 3, 4, 5, 6, 7, 8

## H_Male_4x2_TH_100mil_0.405mil_RA
designator H?, comment H_4x2
CONN HEADER R/A 8POS 2.54MM; Manufacturer: 3M; Manufacturer Part Number: 929838-02-04-RK; Supplier 1: Digi-Key; Supplier Part Number 1: 3M156514-08-ND; Last modified by: A-F. Romo; Last modified date: 20220930; ComponentLink1Description: Digi-Key; ComponentLink1URL: https://www.digikey.com/en/products/detail/3m/929838-02-04-RK/1094113?s=N4IgTCBcDaIMwFkAEBGArANjSgLAWgAYAOPAOQBEQBdAXyA
footprint H_MALE_4x2_TH_100MIL_0.405MIL_RA (A-F. Romo / 20221019)
pins: 1, 2, 3, 4, 5, 6, 7, 8

## H_Male_4x2_TH_100mil_KIR
designator H?, comment WiFi
Header for WiFi breakout KIR01; Manufacturer: TBD; Last modified by: V-A.Patino; Last modified date: 20191029; Manufacturer Part Number: TBD; Supplier 1: Poshton; Supplier Part Number 1: TBD
footprint H_4x2_TH_100mil_KIR (/ 20190221 / C-A.Serna.A)
pins: 1, 2, 3, 4, 5, 6, 7, 8

## H_Male_4x2_TH_100mil_RA
designator H?, comment 4x2
HEADER 8 POS 100MIL; Manufacturer: XFCN; Manufacturer Part Number: PZ254R-12-8P; Supplier 1: LCSC; Supplier Part Number 1: C492432; Last modified by: N-A.Potosi; Last modified date: 20210827; ComponentLink1Description: LCSC; ComponentLink1URL: https://lcsc.com/product-detail/Pin-Header-Female-Header_XFCN-PZ254R-12-8P_C492432.html
footprint H_4x2_TH_100MIL_RA (/ 20210827 / N-A.Potosi)
pins: 1, 2, 3, 4, 5, 6, 7, 8

## H_Male_5x1_TH_50mil_RA
designator H?, comment 5x1 1.27mm
CONN HEADER R/A 5POS 1.27MM; Manufacturer: Harwin Inc.; Manufacturer Part Number: M50-3930542; Supplier 1: Digi-Key; Supplier Part Number 1: 952-3617-ND; Last modified by: E.Naranjo; Last modified date: 20220518; ComponentLink1Description: Digi-Key; ComponentLink1URL: https://www.digikey.com/en/products/detail/harwin-inc/M50-3930542/7044032
footprint H_MALE_5X1_TH_50MIL_RA (20220518 / E.Naranjo)
pins: 1, 2, 3, 4, 5

## H_Male_5x1_TH_100mil
designator H?, comment H_5x1  (no BOM)
Debugging male pin; Last modified by: C-A.Serna.A; Last modified date: 20190225
footprint H_5x1_TH_100mil (/ 20190222 / C-A.Serna.A)
pins: 1, 2, 3, 4, 5

## H_Male_5x1_TH_100mil_1
designator H?, comment H_5x1
CONN HEADER VERT 5POS 2.54MM; Manufacturer: Adam Tech; Manufacturer Part Number: PH1-05-UA; Supplier 1: Digi-Key; Supplier Part Number 1: 2057-PH1-05-UA-ND; Last modified by: J-P.Vargas.A; Last modified date: 20210722; ComponentLink1Description: Digi-key; ComponentLink1URL: https://www.digikey.com/product-detail/en/adam-tech/PH1-05-UA/2057-PH1-05-UA-ND/9830343
footprint H_5x1_TH_100mil_1 (/ 20191121 / J-P.Vargas.A)
pins: 1, 2, 3, 4, 5

## H_Male_5x1_TH_200mil_RMC
designator H?, comment 5x1 RMC
CONN HEADER VERT 5POS 5.08MM; Manufacturer: Molex; Manufacturer Part Number: 0010085051; Supplier 1: Digi-Key; Supplier Part Number 1: WM4334-ND; Last modified by: C-A.Serna.A; Last modified date: 20210722; ComponentLink1Description: Digi-Key; ComponentLink1URL: https://www.digikey.com/product-detail/en/molex/0010085051/WM4334-ND/2421265
footprint H_5x1_TH_200mil_RMC (/ 20200321/ C-A.Serna.A)
pins: 1, 2, 3, 4, 5

## H_Male_5x2_SMD_50mil
designator H?, comment H_5x2_SMD
CONN HEADER 10POS DL UNSHRD SMD; Manufacturer: Amphenol FCI; Manufacturer Part Number: 20021121-00010C4LF; ComponentLink1URL: https://www.digikey.tw/products/en?keywords=609-3695-1-ND; Last modified by: J-E.Pachon; Last modified date: 20210722; ComponentLink1Description: Digi-key; Supplier 1: Digi-Key; Supplier Part Number 1: 609-3695-1-ND
footprint H_5x2_SMD_50mil_nRF (/ 20190222 / C-A.Serna.A)
pins: 1, 2, 3, 4, 5, 6, 8, 9, 10

## H_Male_5x2_SMD_50mil_1
designator H?, comment SWD
CONN HEADER SMD 10POS 1.27MM; Manufacturer: Amphenol ICC (FCI); Manufacturer Part Number: 20021121-00010C4LF; Supplier 1: Digi-key; Supplier Part Number 1: 609-3695-1-ND; Last modified by: M-C.Calderon; Last modified date: 20210722; ComponentLink1Description: Digi-key; ComponentLink1URL: https://www.digikey.com/products/en?keywords=609-3695-1-ND
footprint H_5x2_SMD_50MIL (/20200728/M-C.Calderon)
pins: 1, 2, 3, 4, 5, 6, 7, 8, 9, 10

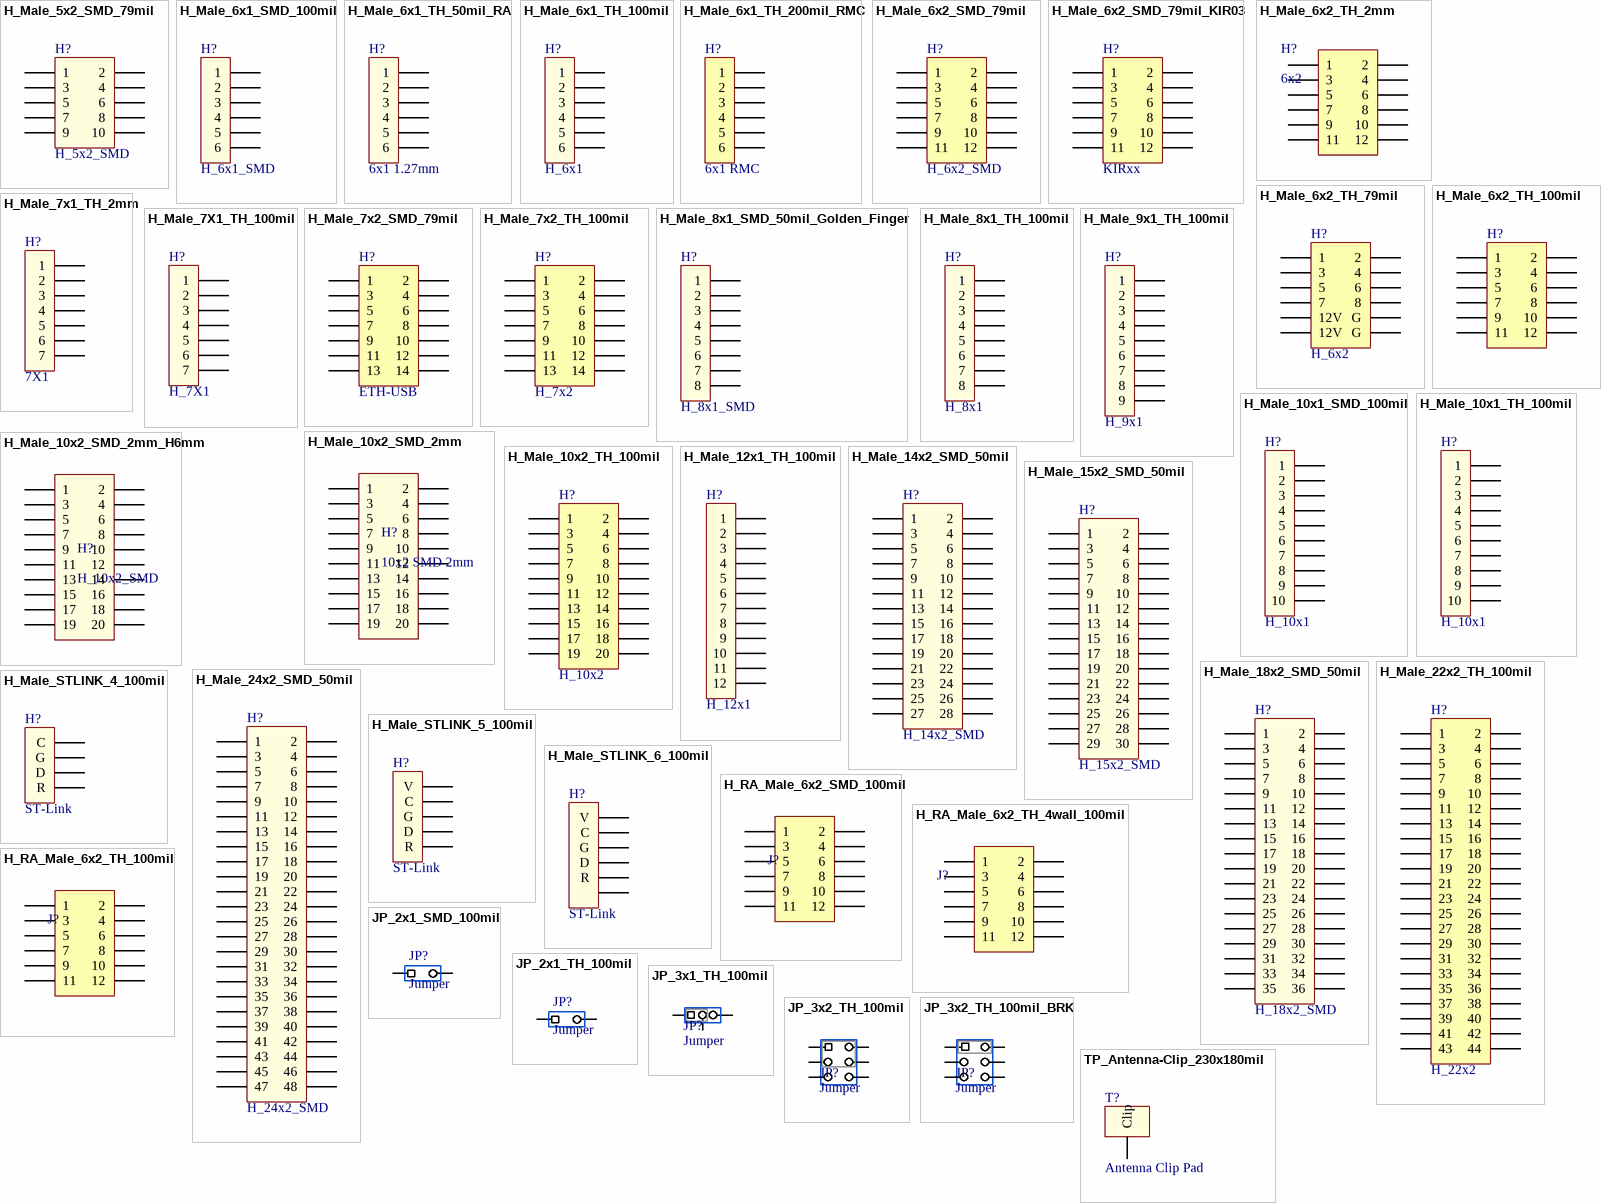
[diagram p8: symbols H_Male_5x2_SMD_79mil to TP_Antenna-Clip_230x180mil]

## H_Male_5x2_SMD_79mil
designator H?, comment H_5x2_SMD
CONN HEADER SMD 10POS 2MM; Manufacturer: Amphenol ICC (FCI); Manufacturer Part Number: 57202-G52-05LF; ComponentLink1URL: https://www.digikey.com/products/en?keywords=609-2610-ND; Last modified by: C-D Viveros; Last modified date: 20210722; ComponentLink1Description: Digi-key; Supplier 1: Digi-Key; Supplier Part Number 1: 609-2610-ND
footprint H_5x2_SMD_79mil (/ 20190909 / C-D Viveros)
pins: 1, 2, 3, 4, 5, 6, 7, 8, 9, 10

## H_Male_6x1_SMD_100mil
designator H?, comment H_6x1_SMD  (no BOM)
CONN HEADER SMD 6POS 2.54MM; Manufacturer: METZ CONNECT USA Inc.; Manufacturer Part Number: PM20206VBNN; Last modified by: J-E.Pachon; Last modified date: 20210722; ComponentLink1URL: https://www.digikey.tw/products/en?keywords=1849-1036-ND; ComponentLink1Description: Digi-Key; Supplier 1: Digi-Key; Supplier Part Number 1: 1849-1036-ND
footprint H_6x1_SMD_100mil (/ 20190222 / C-A.Serna.A)
pins: 1, 2, 3, 4, 5, 6

## H_Male_6x1_TH_50mil_RA
designator H?, comment 6x1 1.27mm
CONN HEADER R/A 6POS 1.27MM; Manufacturer: Harwin Inc.; Manufacturer Part Number: M50-3930642; Supplier 1: Digi-Key; Supplier Part Number 1: 952-3618-ND; Last modified by: E.Naranjo; Last modified date: 20220516; ComponentLink1Description: Digi-Key; ComponentLink1URL: https://www.digikey.com/en/products/detail/harwin-inc/M50-3930642/7044033?s=N4IgTCBcDaIJwFYwFoDMA2AjADmQOQBEQBdAXyA
footprint H_MALE_6X1_1.27MM_RA (20220516 / E.Naranjo)
pins: 1, 2, 3, 4, 5, 6

## H_Male_6x1_TH_100mil
designator H?, comment H_6x1  (no BOM)
Debugging male pin; Last modified by: C-A.Serna.A; Last modified date: 20190225
footprint H_6x1_TH_100mil (/ 20190222 / C-A.Serna.A)
pins: 1, 2, 3, 4, 5, 6

## H_Male_6x1_TH_200mil_RMC
designator H?, comment 6x1 RMC
CONN HEADER VERT 6POS 5.08MM; Manufacturer: Molex; Manufacturer Part Number: 0010085061; Supplier 1: Digi-Key; Supplier Part Number 1: WM4335-ND; Last modified by: C-A.Serna.A; Last modified date: 20210722; ComponentLink1Description: Digi-Key; ComponentLink1URL: https://www.digikey.com/product-detail/en/molex/0010085061/WM4335-ND/2421266
footprint H_6x1_TH_200mil_RMC (/ 20200321/ C-A.Serna.A)
pins: 1, 2, 3, 4, 5, 6

## H_Male_6x2_SMD_79mil
designator H?, comment H_6x2_SMD
CONN HEADER SMD 12POS 2MM; Manufacturer Part Number: 0877591274; Manufacturer: Molex; ComponentLink1URL: https://www.digikey.com/products/en?keywords=WM3790CT-ND; Last modified date: 20210722; Last modified by: C-D Viveros; Supplier 1: Digi-key; Supplier Part Number 1: WM3790CT-ND; ComponentLink1Description: Digi-key; ComponentLink1URL: https://www.digikey.tw/products/en?keywords=3M6475-ND
footprint H_6x2_SMD_79mil (/ 20200722 /C-D Viveros)
pins: 1, 2, 3, 4, 5, 6, 7, 8, 9, 10, 11, 12

## H_Male_6x2_SMD_79mil_KIR03
designator H?, comment KIRxx
CONN HEADER SMD 12POS 2MM; Manufacturer: Molex; Manufacturer Part Number: 0877591274; Supplier 1: Digi-Key; Supplier Part Number 1: WM3790CT-ND; Last modified by: M-C.Calderon; Last modified date: 20210722; ComponentLink1Description: Digi-Key; ComponentLink1URL: https://www.digikey.com/products/en?keywords=WM3790CT-ND
footprint H_6x2_SMD_79mil_KIRxx_2 (/20200429/V-A.Patino)
footprint H_6x2_SMD_79mil_KIRxx_1 (/20200429/V-A.Patino)
pins: 1, 2, 3, 4, 5, 6, 7, 8, 9, 10, 11, 12

## H_Male_6x2_TH_2mm
designator H?, comment 6x2
CONN HEADER VERT 12POS 2MM; Manufacturer: Amphenol ICC (FCI); Manufacturer Part Number: 57102-G06-06LF; Supplier 1: Digi-Key; Supplier Part Number 1: 609-2595-ND; Last modified by: E.Naranjo; Last modified date: 20230627; ComponentLink1Description: Digi-Key; ComponentLink1URL: https://www.digikey.com/en/products/detail/amphenol-cs-fci/57102-G06-06LF/1090066?s=N4IgTCBcDaIKwHYCMAGMBaA4igbO3AMgGIgC6AvkA
footprint H_MALE_6X2_TH_2MM (20230627 / E.Naranjo)
pins: 1, 2, 3, 4, 5, 6, 7, 8, 9, 10, 11, 12

## H_Male_6x2_TH_79mil
designator H?, comment H_6x2
CONN HEADER R/A 12POS 2MM; Manufacturer: Samtec Inc.; Manufacturer Part Number: TMM-106-01-T-D-RA; Supplier 1: Digi-key; Supplier Part Number 1: SAM12165-ND; Last modified by: M-C.Calderon; Last modified date: 20210722; ComponentLink1Description: Digi-key; ComponentLink1URL: https://www.digikey.com/product-detail/en/samtec-inc/TMM-106-01-T-D-RA/SAM12165-ND/6691921
footprint H_6x2_TH_79MIL_PSU_KIRXX (20190515 / V-A.Patino)
pins: 1, 2, 3, 4, 5, 6, 7, 8, 9 12V, 10 G, 11 12V, 12 G

## H_Male_6x2_TH_100mil
designator H?
CONN HEADER SMD 12POS 2.54MM; Manufacturer: Amphenol ICC (FCI); Manufacturer Part Number: 10129381-912002BLF; Supplier 1: Digi-Key; Supplier Part Number 1: 10129381-912002BLF-ND; Last modified by: V-A.Patino; Last modified date: 20210811; ComponentLink1Description: Digi-Key; ComponentLink1URL: https://www.digikey.com/en/products/detail/amphenol-icc-fci/10129381-912002BLF/7916083
footprint H_6x2_TH_100mil (/ 20210811 / V-A.Patino)
pins: 1, 2, 3, 4, 5, 6, 7, 8, 9, 10, 11, 12

## H_Male_7x1_TH_2mm
designator H?, comment 7X1
WR-WTB WIRE-TO-BOARD CONNECTORS; Manufacturer: Würth Elektronik; Manufacturer Part Number: 62000711622; Supplier 1: Digi-Key; Supplier Part Number 1: 62000711622; Last modified by: J-E.Pachon; Last modified date: 20220804; ComponentLink1Description: Digi-Key; ComponentLink1URL: https://www.digikey.com/en/products/detail/w%C3%BCrth-elektronik/62000711622/16608572?s=N4IgTCBcDaIGxgAzIOwEY0IgXQL5A
footprint H_7x1_TH_79MIL (/20220804/J-E.Pachon)
pins: 1, 2, 3, 4, 5, 6, 7

## H_Male_7X1_TH_100mil
designator H?, comment H_7X1  (no BOM)
CONN HEADER VERT 7POS 2.54MM; Manufacturer: Sullins Connector Solutions; Manufacturer Part Number: PREC007SAAN-RC; Last modified by: C-D Viveros; Last modified date: 20190912; Supplier 1: Digi-Key; Supplier Part Number 1: S1012EC-07-ND; ComponentLink1Description: Digi-Key; ComponentLink1URL: https://www.digikey.com/en/products/detail/sullins-connector-solutions/PREC007SAAN-RC/2774847?s=N4IgTCBcDaIMoEYAMCwFEDCBaJB2LAcgCIgC6AvkA
footprint H_7x1_TH_100mil (/ 20190829 / M-X.Arias)
pins: 1, 2, 3, 4, 5, 6, 7

## H_Male_7x2_SMD_79mil
designator H?, comment ETH-USB
CONN HEADER SMD 14POS 2MM; Manufacturer: Amphenol ICC (FCI); Manufacturer Part Number: 57202-G52-07LF; Supplier 1: Digi-Key; Supplier Part Number 1: 609-2619-ND; Last modified by: N-A.Potosi; Last modified date: 20210722; ComponentLink1Description: Digi-Key; ComponentLink1URL: https://www.digikey.com/products/en?keywords=609-2619-ND
footprint H_7X2_SMD_79MIL (/20200714/N-A.Potosi)
pins: 1, 2, 3, 4, 5, 6, 7, 8, 9, 10, 11, 12, 13, 14

## H_Male_7x2_TH_100mil
designator H?, comment H_7x2  (no BOM)
CONN HEADER VERT 14POS 2.54MM; Manufacturer: Sullins Connector Solutions; Manufacturer Part Number: PREC007DAAN-RC; Supplier 1: Digi-Key; Supplier Part Number 1: S2012EC-07-ND; Last modified by: J-P.Vargas.A; Last modified date: 20210722; ComponentLink1Description: Digi-Key; ComponentLink1URL: https://www.digikey.com/product-detail/en/sullins-connector-solutions/PREC007DAAN-RC/S2012EC-07-ND/2774887
footprint H_7x2_TH_100mil (/ 20190614 / J-P.Vargas.A)
pins: 1, 2, 3, 4, 5, 6, 7, 8, 9, 10, 11, 12, 13, 14

## H_Male_8x1_SMD_50mil_Golden_Finger
designator H?, comment H_8x1_SMD  (no BOM)
CBL RIBN 8COND 0.050 GRAY 1'; Manufacturer: 3M; Manufacturer Part Number: 3365/08 100; Last modified by: N A Potosi; Last modified date: 20210722; Supplier 1: Digi-Key; Supplier Part Number 1: 3M155833-1-STRIPPED-ND; ComponentLink1Description: Digi-Key; ComponentLink1URL: https://www.digikey.com/product-detail/en/3m/3365-08-100/3M155833-1-STRIPPED-ND/8635323
footprint H_8x1_SMD_50mil (/ 20190916/ N A potosi)
pins: 1, 2, 3, 4, 5, 6, 7, 8

## H_Male_8x1_TH_100mil
designator H?, comment H_8x1  (no BOM)
Debugging male pin; Last modified by: C-D Viveros; Last modified date: 20190823
footprint H_8x1_TH_100mil (/ 20190823 / C-D Viveros)
pins: 1, 2, 3, 4, 5, 6, 7, 8

## H_Male_9x1_TH_100mil
designator H?, comment H_9x1  (no BOM)
Debugging male pin; Last modified by: C-D Viveros; Last modified date: 20190919
footprint H_9x1_TH_100mil (/ 20190919 / C-D Viveros)
pins: 1, 2, 3, 4, 5, 6, 7, 8, 9

## H_Male_10x1_SMD_100mil
designator H?, comment H_10x1
CONN HEADER SMD 10POS 2.54MM; Manufacturer: Amphenol ICC (FCI); Manufacturer Part Number: 10129380-910002ALF; Supplier 1: Digi-Key; Supplier Part Number 1: 609-10129380-910002ALFCT-ND; Last modified by: V-A.Patino; Last modified date: 20210811
footprint H_10x1_SMD_100mil (/ 20210811 / V-A.Patino)
pins: 1, 2, 3, 4, 5, 6, 7, 8, 9, 10

## H_Male_10x1_TH_100mil
designator H?, comment H_10x1  (no BOM)
Debugging male pin; Last modified by: C-D Viveros; Last modified date: 20190823
footprint H_10x1_TH_100mil (/ 20190911 / C-D Viveros)
pins: 1, 2, 3, 4, 5, 6, 7, 8, 9, 10